# EAGLE library part AT90PWM3 (library open-bldc)
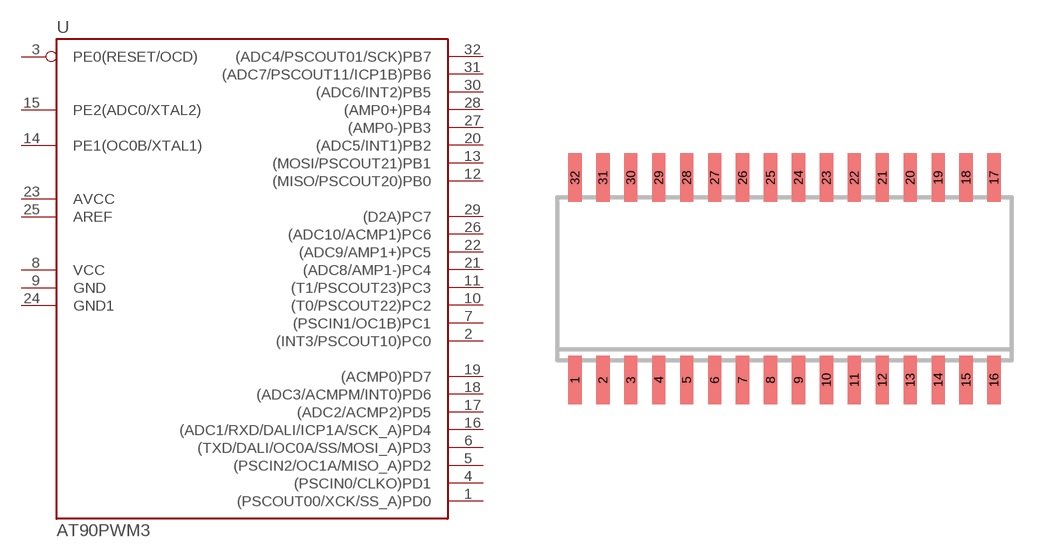
[diagram p0: symbol with the pads of SOIC32; footprint SOIC32]

Designator prefix -

## AT90PWM3  [SOIC32]
1  (PSCOUT00/XCK/SS_A)PD0
2  (INT3/PSCOUT10)PC0
3  PE0(RESET/OCD)  in
4  (PSCIN0/CLKO)PD1
5  (PSCIN2/OC1A/MISO_A)PD2
6  (TXD/DALI/OC0A/SS/MOSI_A)PD3
7  (PSCIN1/OC1B)PC1
8  VCC  pwr
9  GND  pwr
10  (T0/PSCOUT22)PC2
11  (T1/PSCOUT23)PC3
12  (MISO/PSCOUT20)PB0
13  (MOSI/PSCOUT21)PB1
14  PE1(OC0B/XTAL1)
15  PE2(ADC0/XTAL2)
16  (ADC1/RXD/DALI/ICP1A/SCK_A)PD4
17  (ADC2/ACMP2)PD5
18  (ADC3/ACMPM/INT0)PD6
19  (ACMP0)PD7
20  (ADC5/INT1)PB2
21  (ADC8/AMP1-)PC4
22  (ADC9/AMP1+)PC5
23  AVCC
24  GND1
25  AREF
26  (ADC10/ACMP1)PC6
27  (AMP0-)PB3
28  (AMP0+)PB4
29  (D2A)PC7
30  (ADC6/INT2)PB5
31  (ADC7/PSCOUT11/ICP1B)PB6
32  (ADC4/PSCOUT01/SCK)PB7

## Footprint SOIC32 (pad centres in mm)
smd 0.6 x 2.2: 1 -9.525,-4.6; 2 -8.255,-4.6; 3 -6.985,-4.6; 4 -5.715,-4.6; 5 -4.445,-4.6; 6 -3.175,-4.6; 7 -1.905,-4.6; 8 -0.635,-4.6; 9 0.635,-4.6; 10 1.905,-4.6; 11 3.175,-4.6; 12 4.445,-4.6; 13 5.715,-4.6; 14 6.985,-4.6; 15 8.255,-4.6; 16 9.525,-4.6; 17 9.525,4.6; 18 8.255,4.6; 19 6.985,4.6; 20 5.715,4.6; 21 4.445,4.6; 22 3.175,4.6; 23 1.905,4.6; 24 0.635,4.6; 25 -0.635,4.6; 26 -1.905,4.6; 27 -3.175,4.6; 28 -4.445,4.6; 29 -5.715,4.6; 30 -6.985,4.6; 31 -8.255,4.6; 32 -9.525,4.6